# Altium schematic symbol library 变音门铃电路设计.SCHLIB: 8 symbols
Pins are listed as number, name and electrical type; pins without a type are passive.

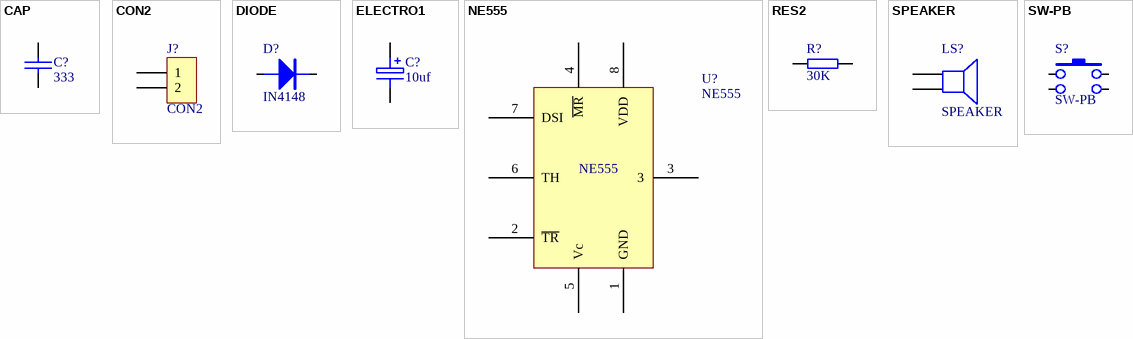
[diagram p0: symbols CAP to SW-PB]

## CAP
designator C?, comment 333
Capacitor
footprint RAD0.1
footprint RAD0.2
footprint R/C0805
footprint R/C1206
footprint R/C0805
pins: 1, 2

## CON2
designator J?
Connector
footprint SIP2
footprint 5.08-S201
pins: 1, 2

## DIODE
designator D?, comment IN4148
footprint DIODE0.4
footprint DIODE0.3
footprint DIODE0.2
footprint D190
footprint D1206
pins: A, K

## ELECTRO1
designator C?, comment 10uf
Electrolytic Capacitor
footprint RB.1/.2
footprint RB.2/.4
pins: 1, 2

## NE555
designator U?
footprint DIP8
pins: 1 GND, 2 ~{TR}, 3, 4 ~{MR}, 5 Vc, 6 TH, 7 DSI, 8 VDD

## RES2
designator R?, comment 30K
footprint AXIAL0.3
footprint AXIAL0.4
footprint AXIAL0.1
footprint AXIAL1.0
footprint R/C0805
footprint R/C0805
pins: 1, 2

## SPEAKER
designator LS?
footprint 5.08-S201
pins: 1, 2

## SW-PB
designator S?
footprint SWPB
pins: 1, 2, 3, 4